# EAGLE library part BM20B(0.6)-20DP-0.4V(51) (library Deegou_Connector)
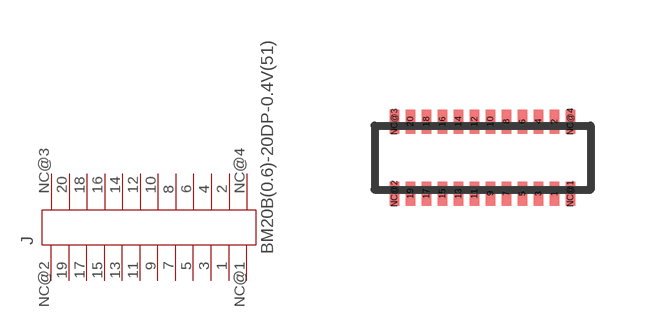
[diagram p10: symbol with the pads of BM20B(0.6)-20DP-0.4V(51); footprint BM20B(0.6)-20DP-0.4V(51)]

Designator prefix J

## BM20B(0.6)-20DP-0.4V(51)  [BM20B(0.6)-20DP-0.4V(51)]
1  1
2  2
3  3
4  4
5  5
6  6
7  7
8  8
9  9
10  10
11  11
12  12
13  13
14  14
15  15
16  16
17  17
18  18
19  19
20  20
NC@1  NC
NC@2  NC
NC@3  NC
NC@4  NC

## Footprint BM20B(0.6)-20DP-0.4V(51) (pad centres in mm)
smd 0.23 x 0.6: 1 1.8,-0.9; 2 1.8,0.9; 3 1.4,-0.9; 4 1.4,0.9; 5 1,-0.9; 6 1,0.9; 7 0.6,-0.9; 8 0.6,0.9; 9 0.2,-0.9; 10 0.2,0.9; 11 -0.2,-0.9; 12 -0.2,0.9; 13 -0.6,-0.9; 14 -0.6,0.9; 15 -1,-0.9; 16 -1,0.9; 17 -1.4,-0.9; 18 -1.4,0.9; 19 -1.8,-0.9; 20 -1.8,0.9; NC@1 2.2,-0.9; NC@2 -2.2,-0.9; NC@3 -2.2,0.9; NC@4 2.2,0.9